# EAGLE library part 6253XX20621_62531020621 (library WR-BHD)
WR-BHD 2.00 mm Male Characteristics Rated current: 2 A Working Voltage: 250 V UL approval: E323964 UL94-V0 Applications Industrial Production lines Details see: www.we-online.com/components/products/WTB_WR_BHD_BOX_HEADER_2_00MM_MALE Updated by Ella 2026-09-16 2026 (C) Würth Elektronik
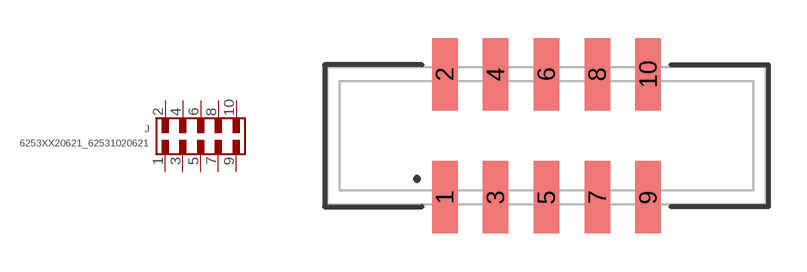
[diagram p206: symbol with the pads of 62531020621; footprint 62531020621]

Designator prefix J

## 6253XX20621_62531020621 (CATEGORY: Connectors; DATASHEET: https://www.we-online.com/redexpert/spec/62531020621?ae; GENDER: Male; LENGTH: 17.25 mm; MANUFACTURER: Würth Elektronik; MOUNT: SMT; MPN: 62531020621; OPERATING_TEMPERATURE: -40 °C up to +105 °C; PACKAGING: Tape and Reel with Cap; PINS: 10; PITCH: 2mm; SIZE: SMT Straight; TYPE: Straight; VALUE: 62531020621)  [62531020621]
1  1  pas
2  2  pas
3  3  pas
4  4  pas
5  5  pas
6  6  pas
7  7  pas
8  8  pas
9  9  pas
10  10  pas

## Footprint 62531020621 (pad centres in mm)
WR-BHD Wire-to-Board Connectors, 2mm, Male, SMT Straight, 10pins
smd 1 x 2.85: 1 -4,-2.425; 2 -4,2.425; 3 -2,-2.425; 4 -2,2.425; 5 0,-2.425; 6 0,2.425; 7 2,-2.425; 8 2,2.425; 9 4,-2.425; 10 4,2.425